# Altium footprint library Voice.PcbLib: 31 footprints (part 2 of 2)
Each footprint in its own frame and in the unit in brackets; x right, y up, seen from the top. Pads: shape width x height; smd on the part's side, far side on the other; paste and mask are expansions set on the pad; w line width, h text height; cw(c..) or ccw(c..) is an arc to the next point about the centre after c.
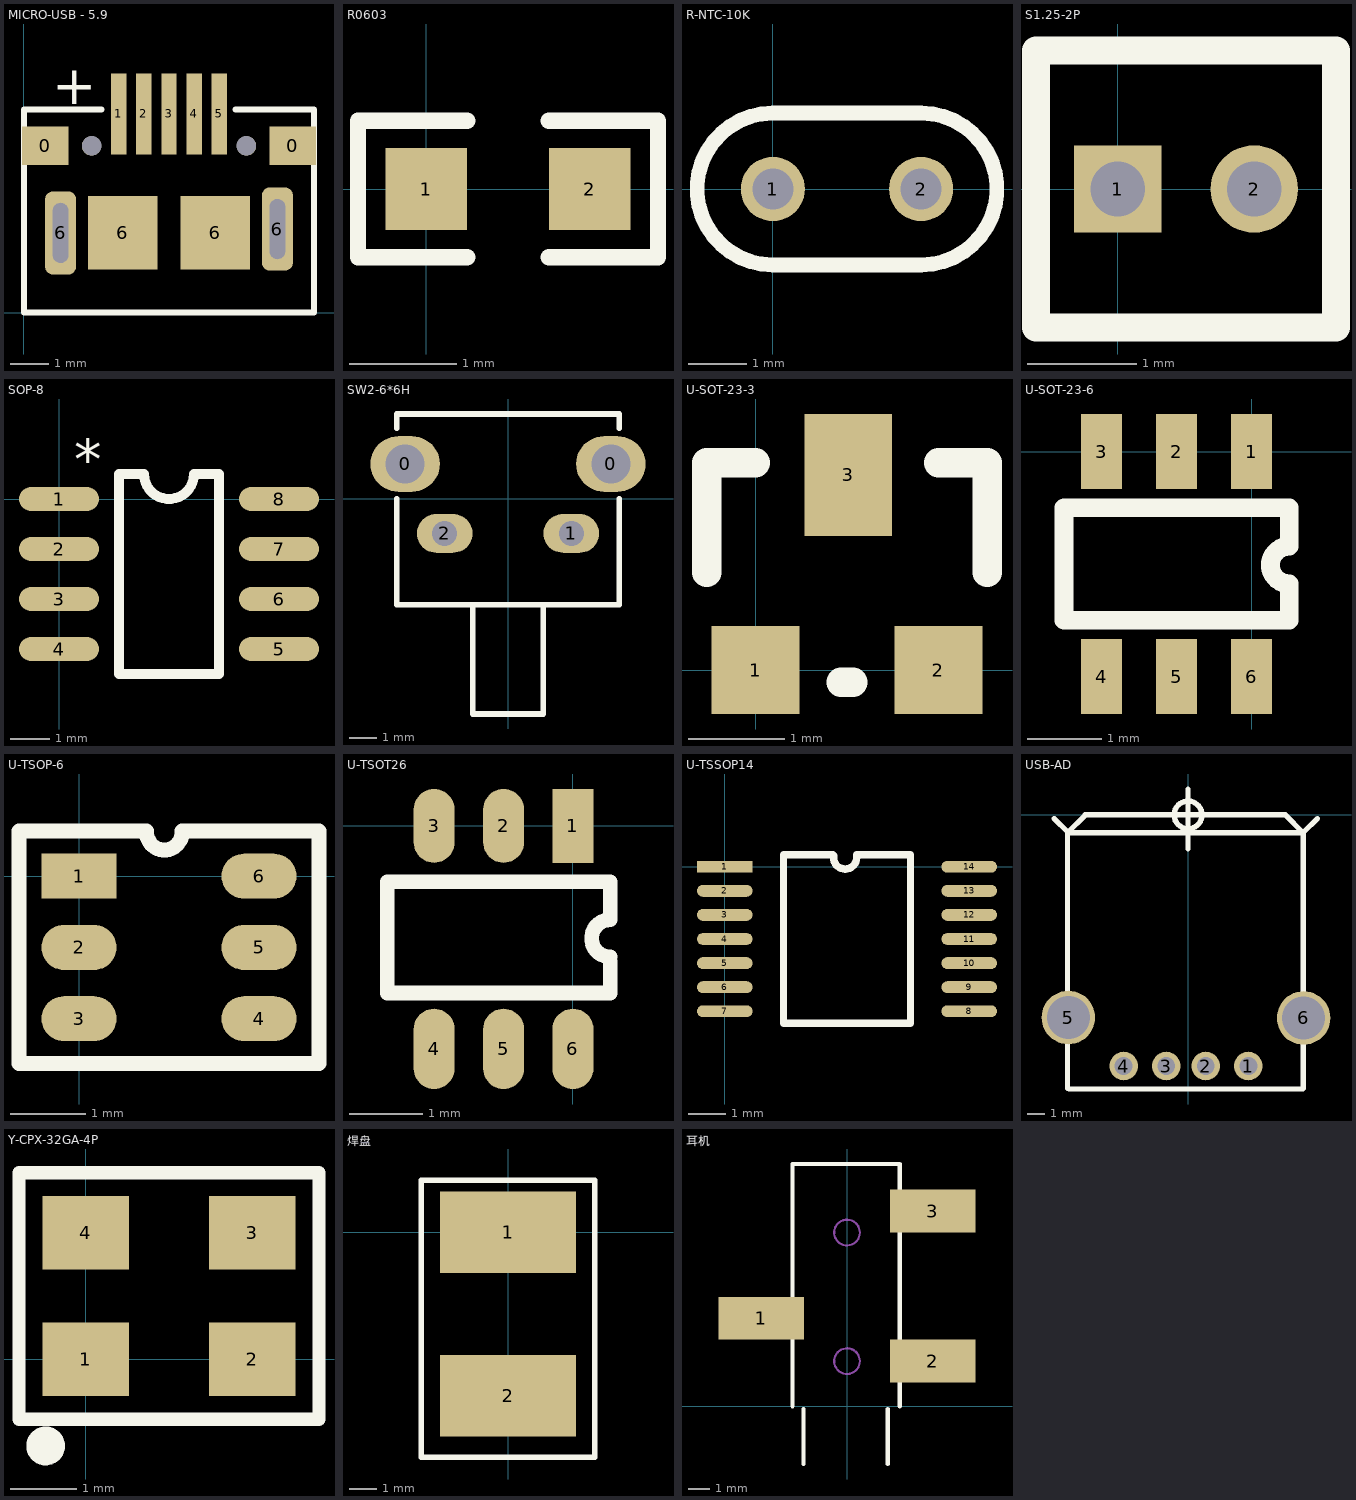
[diagram p1: the footprints below, top view; thin cyan lines are the x and y axes]

## MICRO-USB - 5.9 [mm]
pads (13):
  rect 1.2x1 smd: 0(0.55,4.307) 0(6.95,4.307)
  rect 0.4x2.1 smd: 1(2.45,5.132) 2(3.1,5.132) 3(3.75,5.132) 4(4.4,5.132) 5(5.05,5.132)
  rrect50% 0.8x2.15 hole 0.4 slot 1.55 at 90 deg: 6(0.95,2.057) 6(6.55,2.157)
  rect 1.8x1.9 smd: 6(2.556,2.057) 6(4.943,2.057)
  round 0.5 hole 0.5 unplated: ""(1.75,4.307) ""(5.75,4.307)
Top Overlay:
  lines w0.152: 2.007,5.25 0,5.25 0,0 7.5,0 7.5,5.25 5.469,5.25
  text "+" at 0.737,5.385 h1

## R0603 [mil]
height 12
pads (2):
  rect 30x30 smd: 1(0,0) 2(60,0)
Top Overlay:
  lines w6: 15,-25 -25,-25 -25,25 15,25 ; 45,-25 85,-25 85,25 45,25
3D body "R0603.STEP": height 17.72, standoff 0, extent -0.5,-16 62.5,15.5

## R-NTC-10K [mm]
pads (2):
  round 1.1 hole 0.7: 1(0,0) 2(2.54,0)
Top Overlay:
  lines w0.254: 0,-1.3 cw(c0,0) 0,1.3 2.54,1.3 cw(c2.54,0) 2.54,-1.3 0,-1.3
3D body: height 3.9, standoff 0.7, extent -0.327,-0.763 2.867,0.737
3D body: height 2.5, standoff 0, extent 2.235,-0.299 2.833,0.299
3D body: height 2.5, standoff 0, extent -0.293,-0.299 0.305,0.299

## S1.25-2P [mm]
pads (2):
  rect 0.8x0.8 hole 0.5: 1(0,0)
  round 0.8 hole 0.5: 2(1.25,0)
Top Overlay:
  lines w0.254: -0.75,-1.27 2,-1.27 2,1.27 -0.75,1.27 -0.75,-1.27
3D body: height 8, standoff -2, extent -0.406,-0.406 0.39,0.392

## SOP-8 [mil] "VOICE"
pads (8):
  oval 80x24 smd: 1(0,0) 2(0,-50) 3(0,-100) 4(0,-150) 5(220,-150) 6(220,-100) 7(220,-50) 8(220,0)
Top Overlay:
  lines w10: 60,-175 60,25 85,25 ccw(c110,25) 135,25 160,25 160,-175 60,-175
  text "*" at 15,20 h40

## SW2-6*6H [mm] "2脚按键-6*6 横按"
height 1.2
pads (4):
  oval 2.5x2 hole 1.4: 0(-3.7,1.25) 0(3.7,1.25)
  oval 2x1.4 hole 0.9: 1(2.28,-1.25) 2(-2.28,-1.25)
Top Overlay:
  lines w0.2: -4,0 -4,-3.81 4,-3.81 4,0 ; -4,2.54 -4,3.048 3.937,3.048 ; 4,2.54 4,3.048 ; -1.27,-7.747 -1.27,-3.81 1.27,-3.81 1.27,-7.747 -1.27,-7.747
3D body: height 5.65, standoff 2.15, extent -1.757,-7.829 1.743,-3.429
3D body: height 2.5, standoff 1.5, extent 0.635,-0.254 3.683,0.127
3D body: height 7, standoff -1.5, extent 1.805,-1.504 2.694,-0.996
3D body: height 6.7, standoff 5.6, extent 0.635,-0.254 3.683,0.127
3D body: height 6.9, standoff 0.5, extent 0.635,-0.254 1.651,0.127
3D body: height 6.6, standoff 5.6, extent 1.786,-3.8 2.777,-2.804
3D body: height 2.4, standoff 1.4, extent 1.786,-3.8 2.777,-2.804
3D body: height 2.4, standoff 1.4, extent -2.777,-3.8 -1.786,-2.804
3D body: height 6.6, standoff 5.6, extent -2.777,-3.8 -1.786,-2.804
3D body: height 6.9, standoff 0.5, extent -1.651,-0.254 -0.635,0.127
3D body: height 6.7, standoff 5.6, extent -3.683,-0.254 -0.635,0.127
3D body: height 7, standoff -1.5, extent -2.694,-1.504 -1.805,-0.996
3D body: height 6.9, standoff 0, extent -3.683,-3.175 3.81,-0.254
3D body: height 7.1, standoff 0, extent -3.937,-3.429 4.064,3.048
3D body: height 2.5, standoff 1.5, extent -3.683,-0.254 -0.635,0.127
3D body: height 7, standoff -1.5, extent -3.937,0.826 -3.683,1.715
3D body: height 7, standoff -1.5, extent 3.683,0.826 3.937,1.715

## U-SOT-23-3 [mil]
pads (3):
  rect 36x36 smd: 1(0,0) 2(75,0)
  rect 36x50 smd: 3(38,80)
Top Overlay:
  lines w12: -20,40 -20,85 0,85 ; 35,-5 40,-5 ; 75,85 95,85 95,40
3D body: height 10, standoff 0, extent 57.5,-10 91.5,15
3D body: height 10, standoff 0, extent -17.5,-10 16.5,15
3D body: height 10, standoff 0, extent 20.5,65 54.5,90
3D body: height 50, standoff 3, extent -20.5,12.5 94.5,67.5

## U-SOT-23-6 [mil]
pads (6):
  rect 22x40 smd: 1(0,0) 2(-40,0) 3(-80,0) 4(-80,-120) 5(-40,-120) 6(0,-120)
Top Overlay:
  lines w10: 20,-73 20,-90 -100,-90 -100,-30 20,-30 20,-50.56 ccw(c20,-60.56) 20,-70.56
3D body: height 10, standoff 0, extent -49.5,-127 -30.5,-85
3D body: height 10, standoff 0, extent -9.5,-127 9.5,-85
3D body: height 10, standoff 0, extent -89.5,-127 -70.5,-85
3D body: height 10, standoff 0, extent -9.5,-32 9.5,10
3D body: height 10, standoff 0, extent -49.5,-32 -30.5,10
3D body: height 59.06, standoff 3.94, extent -101,-89 19,-29
3D body: height 10, standoff 0, extent -89.5,-32 -70.5,10

## U-TSOP-6 [mm]
pads (6):
  rect 1x0.6 smd: 1(0,0)
  oval 1x0.6 smd: 2(0,-0.95) 3(0,-1.9) 4(2.4,-1.9) 5(2.4,-0.95) 6(2.4,0)
Top Overlay:
  lines w0.2: -0.8,-2.5 3.2,-2.5 3.2,0.6 1.375,0.6 cw(c1.138,0.587) 0.9,0.6 -0.8,0.6 -0.8,-2.5

## U-TSOT26 [mm]
pads (6):
  rect 0.56x1.01 smd: 1(0,0)
  oval 0.56x1.01 smd: 2(-0.95,0) 3(-1.9,0)
  oval 0.56x1.1 smd: 4(-1.9,-3.05) 5(-0.95,-3.05) 6(0,-3.05)
Top Overlay:
  lines w0.2: 0.508,-1.854 0.508,-2.286 -2.54,-2.286 -2.54,-0.762 0.508,-0.762 0.508,-1.284 ccw(c0.508,-1.538) 0.508,-1.792
3D body: height 0.25, standoff 0, extent -1.194,-3.277 -0.711,-2.21
3D body: height 0.25, standoff 0, extent -0.229,-3.302 0.254,-2.235
3D body: height 0.25, standoff 0, extent -2.134,-3.277 -1.651,-2.21
3D body: height 0.25, standoff 0, extent -0.241,-0.813 0.241,0.254
3D body: height 0.25, standoff 0, extent -1.168,-0.762 -0.686,0.305
3D body: height 1.5, standoff 0.1, extent -2.515,-2.261 0.533,-0.737
3D body: height 0.25, standoff 0, extent -2.134,-0.838 -1.651,0.229

## U-TSSOP14 [mm]
pads (14):
  rect 1.5x0.32 smd: 1(0,0)
  oval 1.5x0.32 smd: 2(0,-0.65) 3(0,-1.3) 4(0,-1.95) 5(0,-2.6) 6(0,-3.25) 7(0,-3.9) 8(6.6,-3.9) 9(6.6,-3.25) 10(6.6,-2.6) 11(6.6,-1.95) 12(6.6,-1.3) 13(6.6,-0.65) 14(6.6,0)
Top Overlay:
  lines w0.2: 3.559,0.296 cw(c3.25,0.25) 2.941,0.294 2.91,0.325 1.585,0.325 1.585,-4.225 5.015,-4.225 5.015,0.325 3.559,0.325
3D body: height 0.25, standoff 0, extent 5.5,-0.15 6.6,0.15
3D body: height 0.25, standoff 0, extent 5.5,-0.8 6.6,-0.5
3D body: height 0.25, standoff 0, extent 5.5,-1.45 6.6,-1.15
3D body: height 0.25, standoff 0, extent 5.5,-2.1 6.6,-1.8
3D body: height 0.25, standoff 0, extent 5.5,-2.75 6.6,-2.45
3D body: height 0.25, standoff 0, extent 5.5,-3.4 6.6,-3.1
3D body: height 0.25, standoff 0, extent 5.5,-4.05 6.6,-3.75
3D body: height 0.25, standoff 0, extent 0,-4.05 1.1,-3.75
3D body: height 0.25, standoff 0, extent 0,-3.4 1.1,-3.1
3D body: height 0.25, standoff 0, extent 0,-2.75 1.1,-2.45
3D body: height 0.25, standoff 0, extent 0,-2.1 1.1,-1.8
3D body: height 0.25, standoff 0, extent 0,-1.45 1.1,-1.15
3D body: height 0.25, standoff 0, extent 0,-0.8 1.1,-0.5
3D body: height 0.25, standoff 0, extent 0,-0.15 1.1,0.15
3D body: height 1.5, standoff 0.1, extent 1,-4.3 5.6,0.3

## USB-AD [mm]
height 6.8
pads (6):
  round 1.6 / inner oval 1.7x2 / far side oval 1.7x2 hole 1: 1(3.378,-14.072) 2(0.991,-14.072) 3(-1.219,-14.072) 4(-3.607,-14.072)
  round 3 / inner round 3.5 / far side round 3.5 hole 2.4: 5(-6.706,-11.354) 6(6.477,-11.379)
Top Overlay:
  circle w0.3: c0,0 r0.778
  lines w0.254: -6.696,-15.359 6.454,-15.359
  lines w0.3: -7.5,-0.2 -6.7,-1 ; -6.75,-15.324 -6.75,-1 ; 0,-1.9 0,1.45 ; 6.45,-15.324 6.45,-1 ; 7.25,-0.2 6.45,-1 ; -6.75,-1 6.45,-1 ; -6.75,-1 -5.75,0 5.45,0 6.45,-1

## Y-CPX-32GA-4P [mm]
pads (4):
  rect 1.3x1.1 smd: 1(0,0) 2(2.5,0) 3(2.5,1.9) 4(0,1.9)
Top Overlay:
  circle w0.3: c-0.6,-1.3 r0.141
  lines w0.2: -1,-0.9 -1,0.4 -1,2.8 3.5,2.8 3.5,-0.9 -1,-0.9

## 焊盘 [mm]
pads (2):
  rect 5x3 smd: 1(0,0) 2(0,-6)
Top Overlay:
  lines w0.2: -3.175,-8.255 -3.175,1.905 3.175,1.905 3.175,-8.255 -3.175,-8.255

## 耳机 [mm] "voice-3P"
pads (3):
  rect 4x2 smd: 1(-4,4.1) 2(4,2.1) 3(4,9.1)
Top Overlay:
  lines w0.2: -2.54,0 -2.54,11.3 2.46,11.3 2.46,0 ; -2.032,-2.7 -2.032,-0.13 ; 1.905,-2.7 1.905,-0.13
Mechanical 1:
  circle w0.1: c0,2.1 r0.6
  circle w0.1: c0,8.1 r0.6
3D body: height 3.05, standoff 0, extent -2.54,-0.127 2.54,11.303
3D body: height 3.05, standoff 0, extent -2.032,-2.667 1.905,-0.127